# Altium schematic symbol library SiProFaSi.SchLib: 10 symbols
Pins are listed as number, name and electrical type; pins without a type are passive.

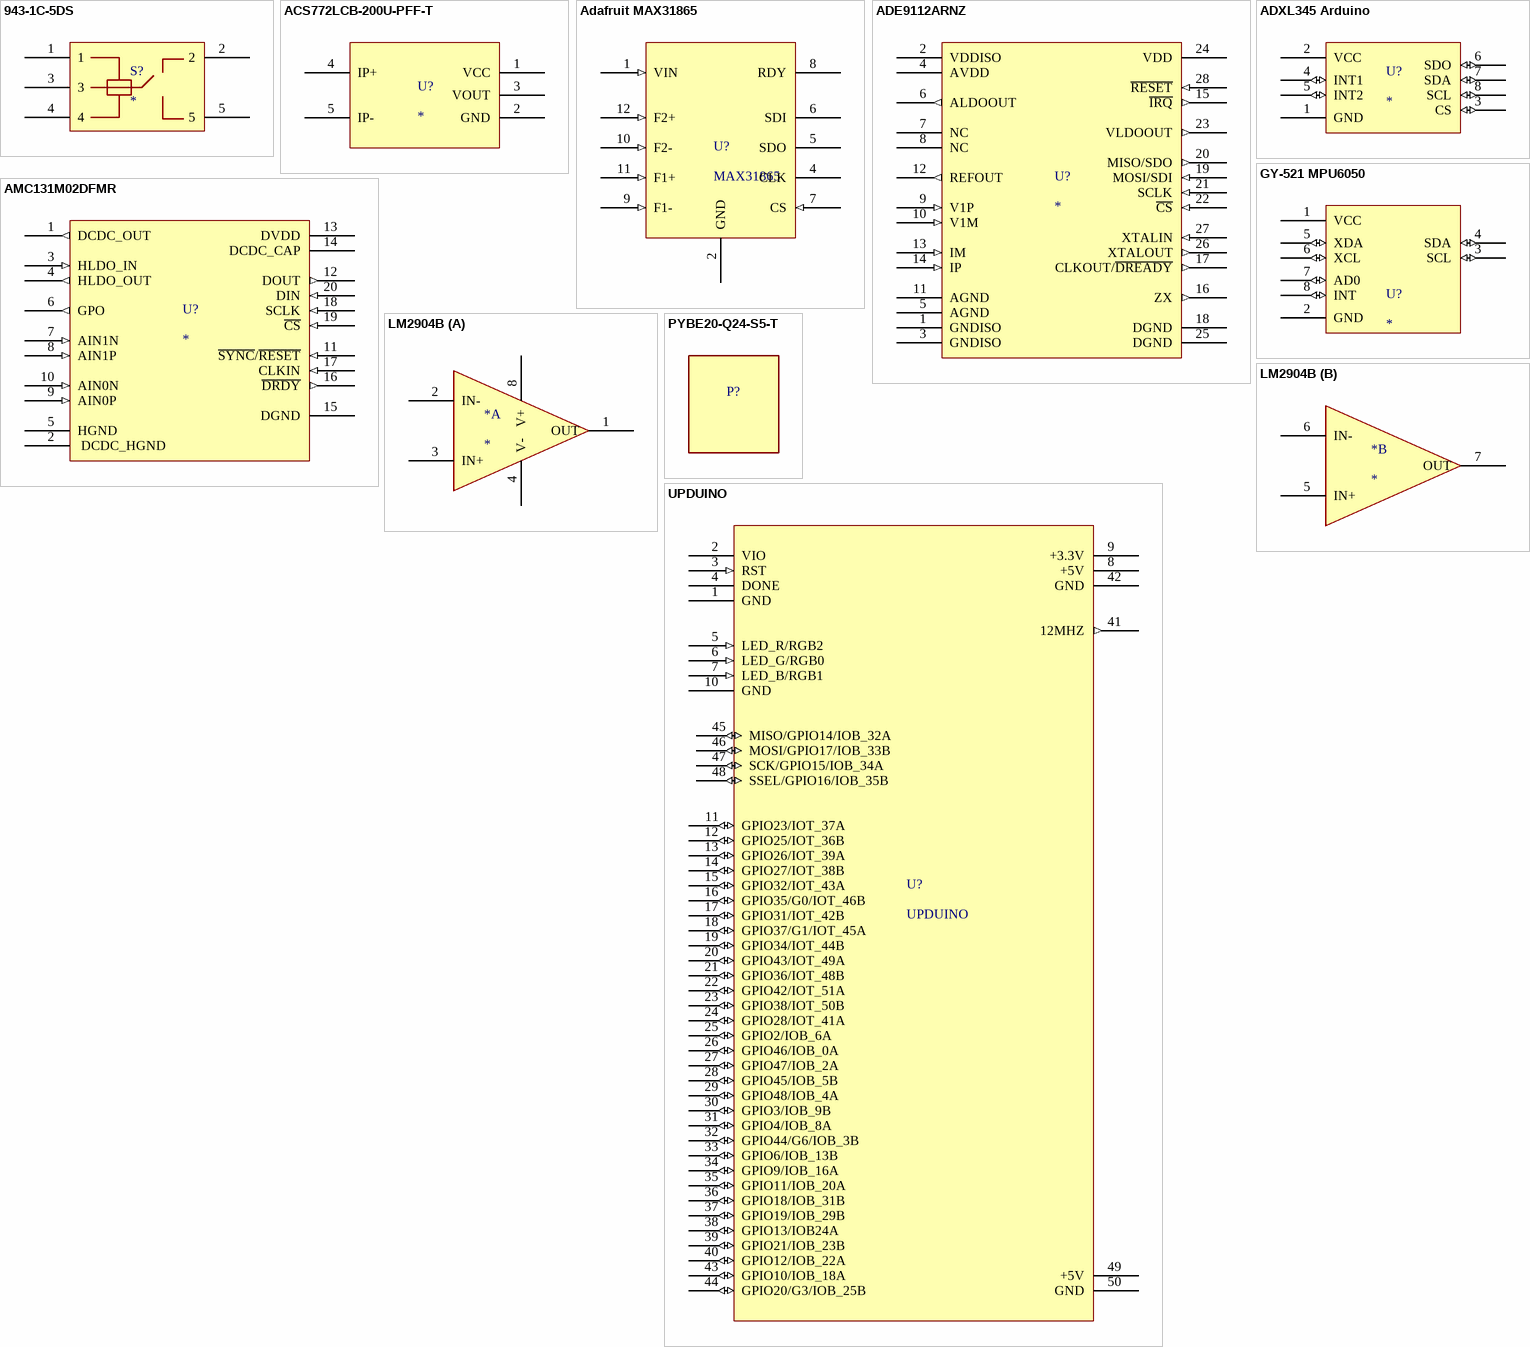
[diagram p0: symbols 943-1C-5DS to UPDUINO]

## 943-1C-5DS
designator S?
Relay 5V
footprint 943-1C-5DS
pins: 1, 2, 3, 4, 5

## ACS772LCB-200U-PFF-T
designator U?
Current Sensor 100A 1 Channel Hall Effect Unidirectional 5-CB Formed Leads, PFF
pins: 1 VCC, 2 GND, 3 VOUT, 4 IP+, 5 IP-

## Adafruit MAX31865
designator U?, comment MAX31865
Easy-to-use resistance-to-digital / converter optimized for platinum resistance temperature / detectors (RTDs)
pins: 1 VIN (in), 2 GND, 4 CLK, 5 SDO, 6 SDI, 7 CS (in), 8 RDY, 9 F1- (in), 10 F2- (in), 11 F1+ (in), 12 F2+ (in)

## ADE9112ARNZ
designator U?
Precision simultaneously sampling Σ-Δ analog-to-digital converters (ADCs) for both DC and polyphase shunt-based energy metering applications.
footprint SOP28
pins: 1 GNDISO, 2 VDDISO (power), 3 GNDISO, 4 AVDD (power), 5 AGND, 6 ALDOOUT (out), 7 NC, 8 NC, 9 V1P (in), 10 V1M (in), 11 AGND, 12 REFOUT (out), 13 IM (in), 14 IP (in), 15 ~{IRQ} (out), 16 ZX (out), 17 CLKOUT/~{DREADY} (out), 18 DGND, 19 MOSI/SDI (in), 20 MISO/SDO (out), 21 SCLK (in), 22 ~{CS} (in), 23 VLDOOUT (out), 24 VDD (power), 25 DGND, 26 XTALOUT (out), 27 XTALIN (in), 28 ~{RESET} (in)

## ADXL345 Arduino
designator U?
3-axis accelerometer with high resolution (13-bit) measurement at up to ±16 g. Digital output data is formatted as 16-bit twos complement and is accessible through SPI or I2C digital interface.
footprint GY-521 MPU6050
pins: 1 GND, 2 VCC (power), 3 CS (io), 4 INT1 (io), 5 INT2 (io), 6 SDO (io), 7 SDA (io), 8 SCL (io)

## AMC131M02DFMR
designator U?
Precision, two-channel, data- / and power-isolated, simultaneous-sampling, 24-bit, delta-sigma (ΔΣ), analog-to-digital converter (ADC).
footprint SOIC20
pins: 1 DCDC_OUT (out) "High-side output of the DC/DC converter. Connect this pin to the HLDO_IN pin.", 2  DCDC_HGND "High-side ground reference for the DC/DC converter. Connect this pin to the HGND pin.", 3 HLDO_IN (in) "Input of the high-side low-dropout (LDO) regulator. Connect this pin to the DCDC_OUT pin.", 4 HLDO_OUT (out) "Output of the high-side LDO.", 5 HGND "High-side analog signal ground. Connect this pin to the DCDC_HGND pin.", 6 GPO (out) "General-purpose output.", 7 AIN1N (in), 8 AIN1P (in), 9 AIN0P (in), 10 AIN0N (in), 11 ~{SYNC}/~{RESET} (in), 12 DOUT (out), 13 DVDD (power) "Low-side analog and digital power supply.", 14 DCDC_CAP (power) "Low-side input of the DC/DC converter, internally connected to the output of the primary-side LDO.", 15 DGND, 16 ~{DRDY} (out), 17 CLKIN (in), 18 SCLK (in), 19 ~{CS} (in), 20 DIN (in)

## GY-521 MPU6050
designator U?
3 Axis Accelerometer Gyroscope Module 6 DOF 6-Axis Acceleration Sensor Gyroscope Sensor Module 16 Bit AD Converter Data Output IIC for Arduino
footprint GY-521 MPU6050
pins: 1 VCC (power), 2 GND, 3 SCL (io), 4 SDA (io), 5 XDA (io), 6 XCL (io), 7 AD0 (io), 8 INT (io)

## LM2904B
designator *
part A pins: 1 OUT, 2 IN-, 3 IN+, 4 V-, 8 V+
part B pins: 5 IN+, 6 IN-, 7 OUT

## PYBE20-Q24-S5-T
designator P?
DC-DC Converters
footprint PYBE20-Q24-S5-T

## UPDUINO
designator U?
Lattice UltraPlus ICE40UP5K FPGA with 5.3K LUTs, 1Mb SPRAM, 120Kb DPRAM, 8 Multipliers
footprint UPDUINO
pins: 1 GND, 2 VIO (power), 3 RST (in), 4 DONE, 5 LED_R/RGB2 (in), 6 LED_G/RGB0 (in), 7 LED_B/RGB1 (in), 8 +5V (power), 9 +3.3V (power), 10 GND, 11 GPIO23/IOT_37A (io), 12 GPIO25/IOT_36B (io), 13 GPIO26/IOT_39A (io), 14 GPIO27/IOT_38B (io), 15 GPIO32/IOT_43A (io), 16 GPIO35/G0/IOT_46B (io) "Global clock input", 17 GPIO31/IOT_42B (io), 18 GPIO37/G1/IOT_45A (io) "Global clock input", 19 GPIO34/IOT_44B (io), 20 GPIO43/IOT_49A (io), 21 GPIO36/IOT_48B (io), 22 GPIO42/IOT_51A (io), 23 GPIO38/IOT_50B (io), 24 GPIO28/IOT_41A (io), 25 GPIO2/IOB_6A (io), 26 GPIO46/IOB_0A (io), 27 GPIO47/IOB_2A (io), 28 GPIO45/IOB_5B (io), 29 GPIO48/IOB_4A (io), 30 GPIO3/IOB_9B (io), 31 GPIO4/IOB_8A (io), 32 GPIO44/G6/IOB_3B (io) "Global clock input", 33 GPIO6/IOB_13B (io), 34 GPIO9/IOB_16A (io), 35 GPIO11/IOB_20A (io), 36 GPIO18/IOB_31B (io), 37 GPIO19/IOB_29B (io), 38 GPIO13/IOB24A (io), 39 GPIO21/IOB_23B (io), 40 GPIO12/IOB_22A (io), 41 12MHZ (out), 42 GND, 43 GPIO10/IOB_18A (io), 44 GPIO20/G3/IOB_25B (io) "Global clock input", 45 MISO/GPIO14/IOB_32A (io), 46 MOSI/GPIO17/IOB_33B (io), 47 SCK/GPIO15/IOB_34A (io), 48 SSEL/GPIO16/IOB_35B (io), 49 +5V (power), 50 GND